# EAGLE library part 2-406541-3 (library open_covg)
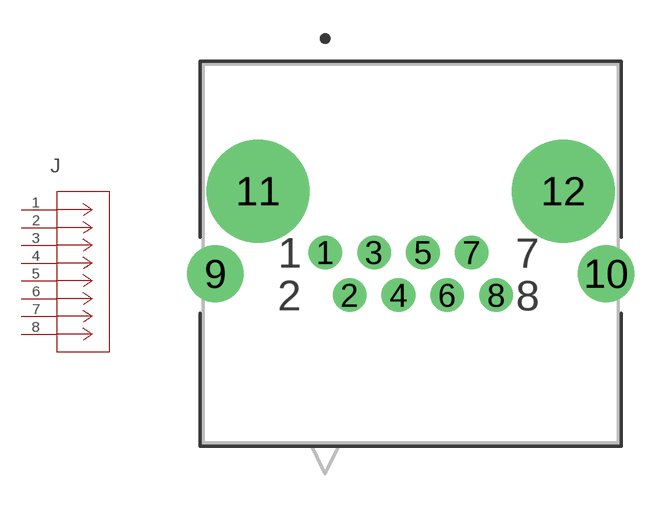
[diagram p23: symbol with the pads of CONN8_406541_TEC; footprint CONN8_406541_TEC]

Designator prefix J

## 2-406541-3 (MANUFACTURER_PART_NUMBER: 2-406541-3; SOURCELIBRARY: TE_Connectivity-2018-03-16; VENDOR: TE Connectivity)  [CONN8_406541_TEC]
1  1  pas
2  2  pas
3  3  pas
4  4  pas
5  5  pas
6  6  pas
7  7  pas
8  8  pas

## Footprint CONN8_406541_TEC (pad centres in mm)
drill 0.889 pad 1.397: 1 0,0; 2 1.016,-1.778; 3 2.032,0; 4 3.048,-1.778; 5 4.064,0; 6 5.08,-1.778; 7 6.096,0; 8 7.112,-1.778
drill 1.575 pad 2.083: 9 -4.572,-0.889; 10 11.684,-0.889
drill 3.251 pad 3.251: 11 -2.794,2.54; 12 9.906,2.54